# Altium footprint library default.PcbLib: 40 footprints (part 1 of 3)
Each footprint in its own frame and in the unit in brackets; x right, y up, seen from the top. Pads: shape width x height; smd on the part's side, far side on the other; paste and mask are expansions set on the pad; w line width, h text height; cw(c..) or ccw(c..) is an arc to the next point about the centre after c.
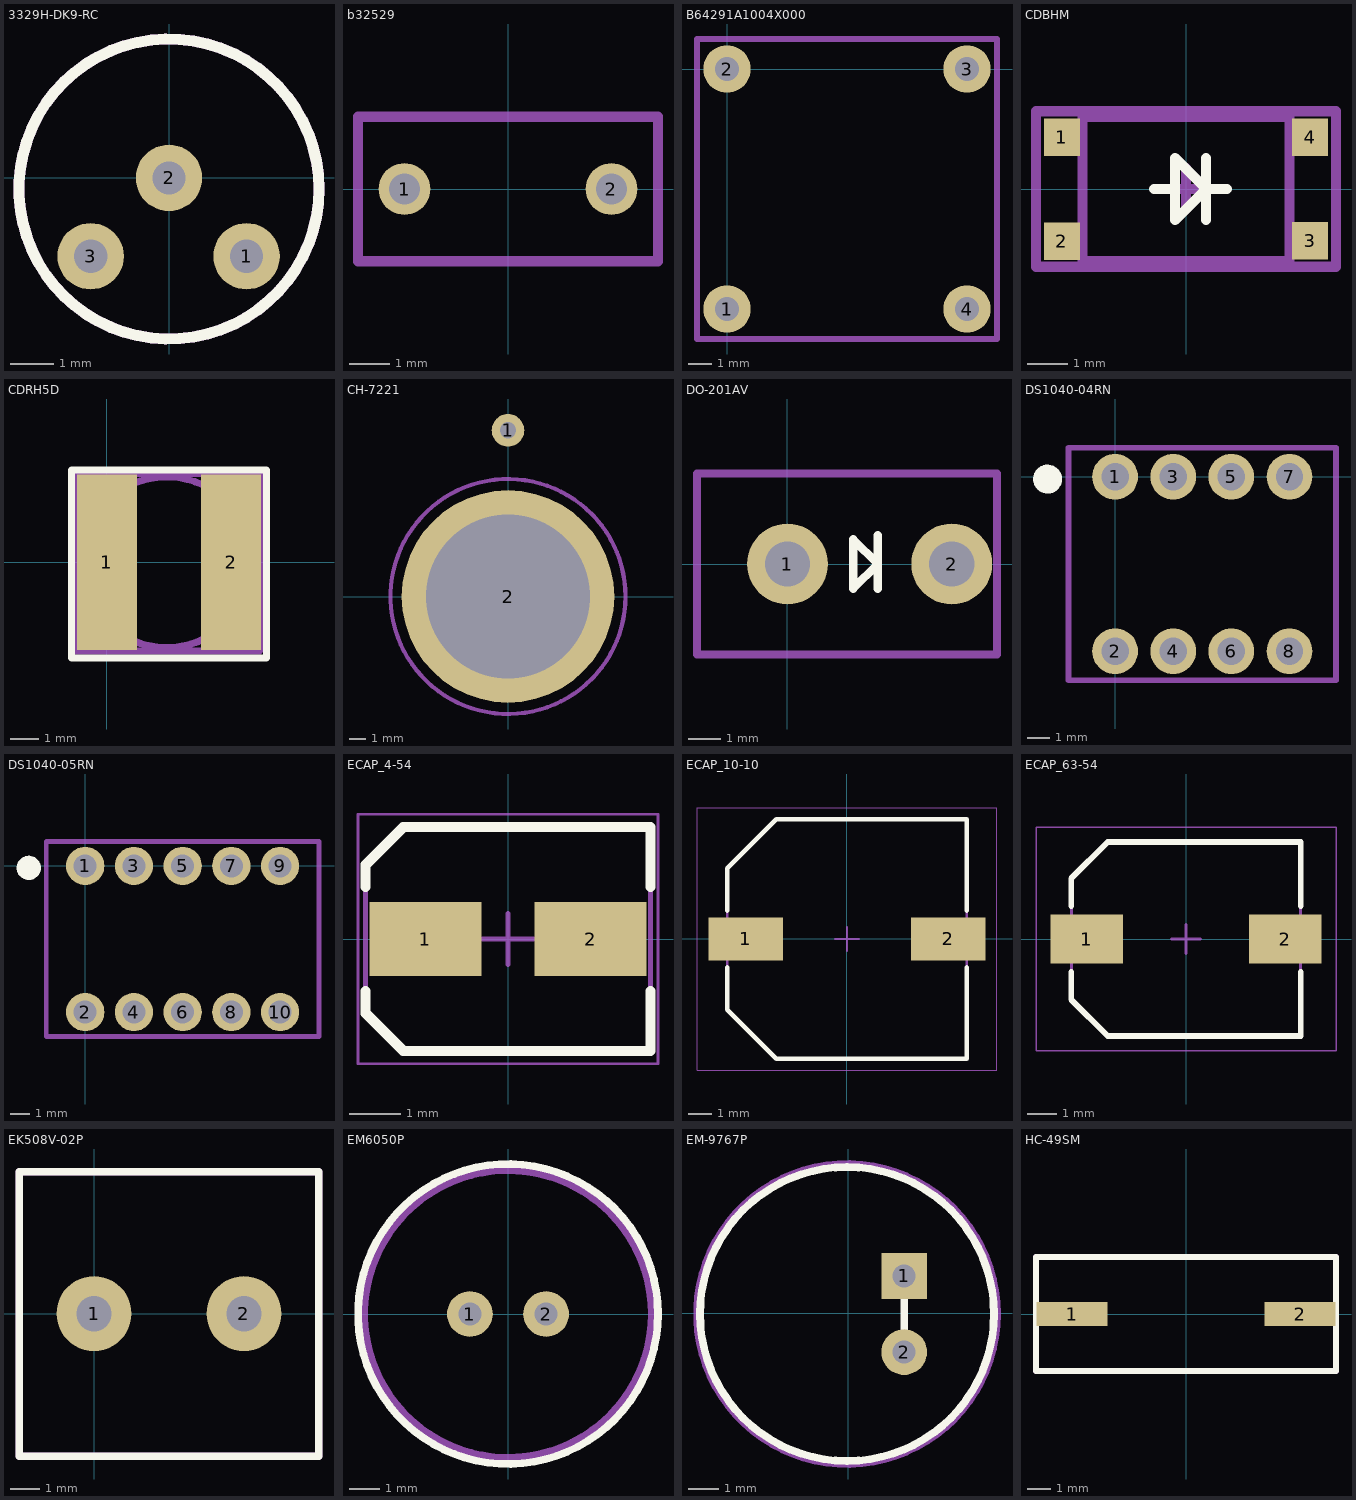
[diagram p0: the footprints below, top view; thin cyan lines are the x and y axes]

## 3329H-DK9-RC [mil]
pads (3):
  round 60 hole 30: 1(70,-70.71) 2(0,0) 3(-70.71,-70.71)
Top Overlay:
  circle w10: c0,-10 r135.37
Top Courtyard:
  circle w10: c0,-10 r135.37
3D body "3329h-1-102.stp": height 230.85, standoff -230.15, extent -130,-140 130,120

## b32529 [mil]
pads (2):
  round 50 hole 30: 1(-100,0) 2(100,0)
Top Courtyard:
  lines w10: -145,-70 -145,70 145,70 145,-70 -145,-70
3D body "B32529C.step": height 295.28, standoff -137.8, extent -143.7,-68.89 143.7,68.9

## B64291A1004X000 [mm]
pads (4):
  round 2 hole 1: 1(0,-10.16) 2(0,0) 3(10.16,0) 4(10.16,-10.16)
Top Courtyard:
  lines w0.254: -1.27,-11.43 -1.27,1.27 11.43,1.27 11.43,-11.43 -1.27,-11.43

## CDBHM [mm]
pads (4):
  rect 0.88x0.92 smd mask+0.102: 1(-3.048,1.27) 2(-3.048,-1.28) 3(3.048,-1.27) 4(3.048,1.27)
Top Overlay:
  lines w0.254: -0.778,0 -0.27,0 ; 0.492,-0.762 0.492,0.762 ; 1,0 0.492,0 ; 0.492,0 -0.27,-0.762 -0.27,0.762 0.492,0
Mechanical 13:
  lines w0.254: -2.54,-1.778 2.54,-1.778 2.54,1.778 -2.54,1.778 -2.54,-1.778
Mechanical 15:
  lines w0.254: -0.508,0 0.492,0 ; 0,-0.492 0,0.508 ; -3.683,-1.905 3.683,-1.905 3.683,1.905 -3.683,1.905 -3.683,-1.905
3D body "User Library-TO-269AA_jam.STEP": height 2.7, standoff 0, extent -3.556,-2.475 3.484,2.475

## CDRH5D [mm]
pads (2):
  rect 2.15x6.3 smd mask+0.102: 1(0,0) 2(4.445,0)
Top Overlay:
  lines w0.254: -1.27,-3.429 -1.27,3.302 5.715,3.302 5.715,-3.429 -1.27,-3.429
Top Courtyard:
  lines w0.254: 5.194,0.127 ccw(c2.138,0) 5.196,0 ; -1.143,-3.175 5.461,-3.175 5.461,3.175 -1.143,3.175 -1.143,-3.175
3D body "User Library-cdrh5d28.STEP": height 2.9, standoff -0.1, extent -0.762,-3 5.238,3

## CH-7221 [mm]
pads (2):
  round 2 hole 1: 1(0,10.16)
  round 13 hole 10: 2(0,0)
Mechanical 13:
  circle w0.254: c0,0 r7.184

## DO-201AV [mm]
pads (2):
  round 2.5 hole 1.4: 1(0,0) 2(5.08,0)
Top Overlay:
  lines w0.254: 2.794,-0.762 2.794,0.889 ; 2.032,-0.762 2.794,0 2.032,0.762 2.032,-0.762
Top Assembly:
  lines w0.254: -2.794,-2.794 -2.794,2.794 6.477,2.794 6.477,-2.794 -2.794,-2.794
3D body "User Library-DO-201AV-Vertical_200.STEP": height 15.69, standoff -3, extent -2.746,-2.806 5.794,2.794

## DS1040-04RN [mm]
pads (8):
  round 2 hole 1.2: 1(0,0) 2(0,-7.62) 3(2.54,0) 4(2.54,-7.62) 5(5.08,0) 6(5.08,-7.62) 7(7.62,0) 8(7.62,-7.62)
Top Overlay:
  circle w0.254: c-2.946,-0.102 r0.508
  rectangle: -3.378,-0.508 -2.54,0.305
Top Courtyard:
  lines w0.254: -2.032,-8.89 -2.032,1.27 9.652,1.27 9.652,-8.89 -2.032,-8.89
3D body "User Library-DS1040-04 (DIP_switch).STEP": height 6.8, standoff -3.85, extent -2.032,-8.76 9.588,1.14

## DS1040-05RN [mm]
pads (10):
  round 2 hole 1.2: 1(0,0) 2(0,-7.62) 3(2.54,0) 4(2.54,-7.62) 5(5.08,0) 6(5.08,-7.62) 7(7.62,0) 8(7.62,-7.62) 9(10.16,0) 10(10.16,-7.62)
Top Overlay:
  circle w0.254: c-2.946,-0.102 r0.508
  rectangle: -3.378,-0.508 -2.54,0.305
Top Courtyard:
  lines w0.254: -2.032,-8.89 12.192,-8.89 12.192,1.27 -2.032,1.27 -2.032,-8.89
3D body "User Library-DS1040-05 (DIP_switch).STEP": height 6.8, standoff -3.85, extent -2,-8.76 12.16,1.14

## ECAP_4-54 [mm] "Aluminum Electrolytic Capacitor, Body 5,50x4,30x6,30mm, IPC High Density"
height 6.3
pads (2):
  rect 2.2x1.45 smd: 1(-1.625,0) 2(1.625,0)
Top Overlay:
  lines w0.2: -2.8,-1.025 -2.8,-1.462 -2.063,-2.2 2.8,-2.2 2.8,-1.025 ; -2.8,1.025 -2.8,1.462 -2.063,2.2 2.8,2.2 2.8,1.025
Top Assembly:
  lines w0.05: -2.95,-2.45 2.95,-2.45 2.95,2.45 -2.95,2.45 -2.95,-2.45
  lines w0.1: -0.5,0 0.5,0 ; 0,-0.5 0,0.5
Top Courtyard:
  lines w0.1: -2.8,-1.462 -2.8,1.462 -2.063,2.2 2.8,2.2 2.8,-2.2 -2.063,-2.2 -2.8,-1.462
3D body "CAPAE4643X63L.step": height 6.3, standoff 0, extent -2.8,-2.2 2.8,2.2

## ECAP_10-10 [mm] "Aluminum Electrolytic Capacitor, Body 10,30x10,30x10,50mm, IPC Medium Density"
height 10.5
pads (2):
  rect 3.2x1.85 smd: 1(-4.35,0) 2(4.35,0)
Top Overlay:
  lines w0.2: -5.15,-1.225 -5.15,-3.037 -3.037,-5.15 5.15,-5.15 5.15,-1.225 ; -5.15,1.225 -5.15,3.037 -3.037,5.15 5.15,5.15 5.15,1.225
Top Assembly:
  lines w0.05: -6.45,-5.65 -6.45,5.65 6.45,5.65 6.45,-5.65 -6.45,-5.65
  lines w0.1: -0.5,0 0.5,0 ; 0,-0.5 0,0.5
Top Courtyard:
  lines w0.1: -5.15,-3.037 -3.037,-5.15 5.15,-5.15 5.15,5.15 -3.037,5.15 -5.15,3.037 -5.15,-3.037
3D body "CAPAE103103X105N.step": height 10.5, standoff 0, extent -5.15,-5.15 5.15,5.15

## ECAP_63-54 [mm] "Aluminum Electrolytic Capacitor, Body 7,80x6,60x7,70mm, IPC Medium Density"
height 7.7
pads (2):
  rect 2.45x1.65 smd: 1(-3.375,0) 2(3.375,0)
Top Overlay:
  lines w0.2: -3.9,-1.125 -3.9,-2.063 -2.662,-3.3 3.9,-3.3 3.9,-1.125 ; -3.9,1.125 -3.9,2.063 -2.662,3.3 3.9,3.3 3.9,1.125
Top Assembly:
  lines w0.05: -5.1,-3.8 -5.1,3.8 5.1,3.8 5.1,-3.8 -5.1,-3.8
  lines w0.1: -0.5,0 0.5,0 ; 0,-0.5 0,0.5
Top Courtyard:
  lines w0.1: -3.9,-2.063 -2.662,-3.3 3.9,-3.3 3.9,3.3 -2.662,3.3 -3.9,2.063 -3.9,-2.063
3D body "CAPAE8066X77N.step": height 7.7, standoff 0, extent -4,-3.3 4,3.3

## EK508V-02P [mm]
pads (2):
  round 2.54 hole 1.2: 1(0,0) 2(5.08,0)
Top Overlay:
  lines w0.254: -2.54,-4.826 7.62,-4.826 7.62,4.8 -2.54,4.8 -2.54,-4.826
Top Courtyard:
  lines w0.254: -2.54,-4.826 7.62,-4.826 7.62,4.8 -2.54,4.8 -2.54,-4.826
3D body "17573.stp": height 14.05, standoff -3.55, extent -2.46,-4.555 7.54,4.445

## EM6050P [mil]
pads (2):
  round 60 hole 30: 1(-50,0) 2(50,0)
Top Overlay:
  circle w10: c0,0 r196.85
Mechanical 13:
  circle w10: c0,0 r188.68
3D body "User Library-Electret microphone.STEP": height 271.65, standoff -393.7, extent -190.93,-190.94 190.95,190.95

## EM-9767P [mil]
pads (2):
  rect 60x60 hole 30: 1(73.62,49.21)
  round 60 hole 30: 2(73.62,-50.79)
Top Overlay:
  circle w10: c-1.38,-0.79 r192.91
  lines w10: 73.62,-50.79 73.62,49.21
Mechanical 13:
  circle w10: c-1.38,-0.79 r196.85
3D body "User Library-Panasonic_Microphone_WM52BM.STEP": height 202.76, standoff -158.17, extent -193.27,-191.73 188.62,190.16

## HC-49SM [mm]
pads (2):
  rect 3x1 smd: 1(-4.826,0) 2(4.826,0)
Top Overlay:
  lines w0.254: -6.35,-2.413 6.35,-2.413 6.35,2.413 -6.35,2.413 -6.35,-2.413
Mechanical 13:
  lines w0.254: -6.35,-2.413 -6.35,2.413 6.35,2.413 6.35,-2.413 -6.35,-2.413
3D body "User Library-Crystal HC49_US-SM.STEP": height 4.3, standoff 0, extent -6.4,-2.415 6.4,2.415